# Altium schematic symbol library WCAP-ATET.SchLib: 72 symbols (part 1 of 2)
Pins are listed as number, name and electrical type; pins without a type are passive.

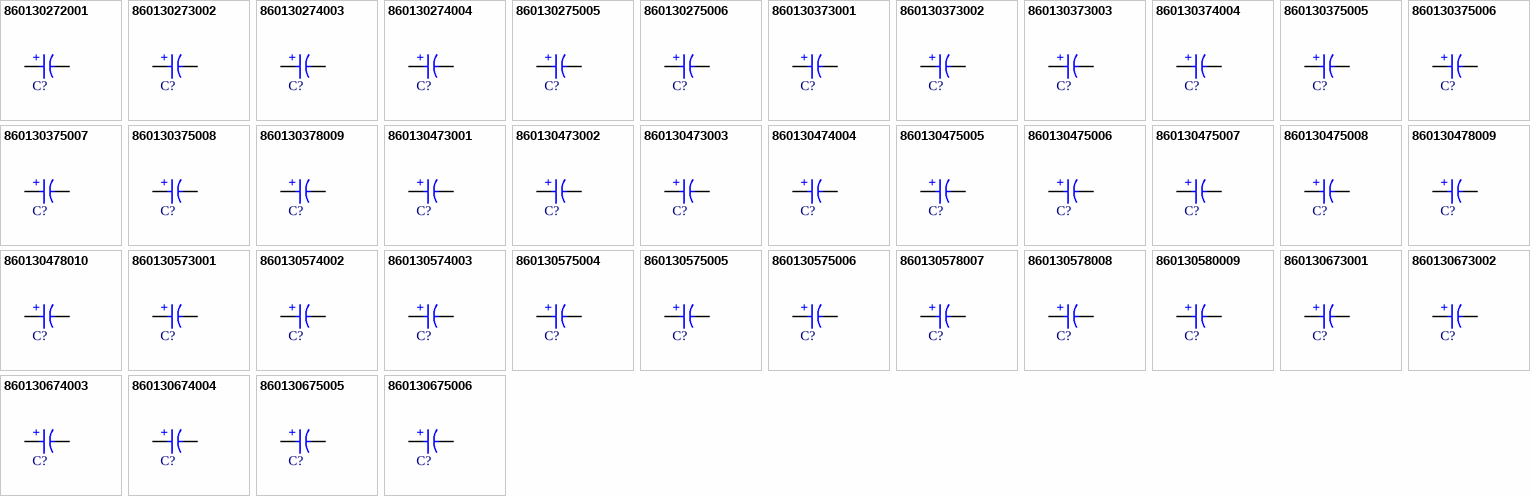
[diagram p0: symbols 860130272001 to 860130675006]

## 860130272001
designator C?, comment 47µF  (value not drawn)
WCAP-ATET Aluminum Electrolytic Capacitor, Radial, THT, D5 x H11mm, 47µF, 10V; Manufacturer Part Number: 860130272001; Manufacturer: Wurth Elektronik; Capacitance Tolerance: +/-20%; Dissipation Factor: 18%; Endurance: 1000h; Leakage Current: 4.7µA; Ripple Current: 92mA; Technical Reference: ATGC110470M010DSPA3A000; Category: Aluminum Electrolytic Capacitors; Match Code: WCAP-ATET; ComponentLink1Description: Website Link; ComponentLink1URL: https://www.we-online.com/redexpert/article/860130272001?ad; ComponentLink2Description: Datasheet Link; ComponentLink2URL: https://www.we-online.com/redexpert/spec/860130272001?ad; Mount: Through Hole; Operating Temperature Max: 125°C; Operating Temperature Min: -40°C; Packaging: Ammo Pack; Height: 11mm; Diameter: 5mm; Capacitance: 47µF; Rated Voltage (DC): 10V
footprint WCAP-ATET_D5H11
simulation model 860130272001_47uF
pins: 1 P, 2 N
text: +

## 860130273002
designator C?, comment 100µF  (value not drawn)
WCAP-ATET Aluminum Electrolytic Capacitor, Radial, THT, D6.3 x H11mm, 100µF, 10V; Manufacturer Part Number: 860130273002; Manufacturer: Wurth Elektronik; Capacitance Tolerance: +/-20%; Dissipation Factor: 18%; Endurance: 1000h; Leakage Current: 10µA; Ripple Current: 145mA; Technical Reference: ATGD110101M010DSPA4A000; Category: Aluminum Electrolytic Capacitors; Match Code: WCAP-ATET; ComponentLink1Description: Website Link; ComponentLink1URL: https://www.we-online.com/redexpert/article/860130273002?ad; ComponentLink2Description: Datasheet Link; ComponentLink2URL: https://www.we-online.com/redexpert/spec/860130273002?ad; Mount: Through Hole; Operating Temperature Max: 125°C; Operating Temperature Min: -40°C; Packaging: Ammo Pack; Height: 11mm; Diameter: 6.3mm; Capacitance: 100µF; Rated Voltage (DC): 10V
footprint WCAP-ATET_D6.3H11
simulation model 860130273002_100uF
pins: 1 P, 2 N
text: +

## 860130274003
designator C?, comment 220µF  (value not drawn)
WCAP-ATET Aluminum Electrolytic Capacitor, Radial, THT, D8 x H11.5mm, 220µF, 10V; Manufacturer Part Number: 860130274003; Manufacturer: Wurth Elektronik; Capacitance Tolerance: +/-20%; Dissipation Factor: 18%; Endurance: 1000h; Leakage Current: 22µA; Ripple Current: 330mA; Technical Reference: ATGE115221M010DSPA7A000; Category: Aluminum Electrolytic Capacitors; Match Code: WCAP-ATET; ComponentLink1Description: Website Link; ComponentLink1URL: https://www.we-online.com/redexpert/article/860130274003?ad; ComponentLink2Description: Datasheet Link; ComponentLink2URL: https://www.we-online.com/redexpert/spec/860130274003?ad; Mount: Through Hole; Operating Temperature Max: 125°C; Operating Temperature Min: -40°C; Packaging: Ammo Pack; Height: 11.5mm; Diameter: 8mm; Capacitance: 220µF; Rated Voltage (DC): 10V
footprint WCAP-ATET_D8H11.5
simulation model 860130274003_220uF
pins: 1 P, 2 N
text: +

## 860130274004
designator C?, comment 330µF  (value not drawn)
WCAP-ATET Aluminum Electrolytic Capacitor, Radial, THT, D8 x H11.5mm, 330µF, 10V; Manufacturer Part Number: 860130274004; Manufacturer: Wurth Elektronik; Capacitance Tolerance: +/-20%; Dissipation Factor: 18%; Endurance: 1000h; Leakage Current: 33µA; Ripple Current: 340mA; Technical Reference: ATGE115331M010DSPA7A000; Category: Aluminum Electrolytic Capacitors; Match Code: WCAP-ATET; ComponentLink1Description: Website Link; ComponentLink1URL: https://www.we-online.com/redexpert/article/860130274004?ad; ComponentLink2Description: Datasheet Link; ComponentLink2URL: https://www.we-online.com/redexpert/spec/860130274004?ad; Mount: Through Hole; Operating Temperature Max: 125°C; Operating Temperature Min: -40°C; Packaging: Ammo Pack; Height: 11.5mm; Diameter: 8mm; Capacitance: 330µF; Rated Voltage (DC): 10V
footprint WCAP-ATET_D8H11.5
simulation model 860130274004_330uF
pins: 1 P, 2 N
text: +

## 860130275005
designator C?, comment 470µF  (value not drawn)
WCAP-ATET Aluminum Electrolytic Capacitor, Radial, THT, D10 x H12.5mm, 470µF, 10V; Manufacturer Part Number: 860130275005; Manufacturer: Wurth Elektronik; Capacitance Tolerance: +/-20%; Dissipation Factor: 18%; Endurance: 2000h; Leakage Current: 47µA; Ripple Current: 505mA; Technical Reference: ATGF125471M010DSPA9B000; Category: Aluminum Electrolytic Capacitors; Match Code: WCAP-ATET; ComponentLink1Description: Website Link; ComponentLink1URL: https://www.we-online.com/redexpert/article/860130275005?ad; ComponentLink2Description: Datasheet Link; ComponentLink2URL: https://www.we-online.com/redexpert/spec/860130275005?ad; Mount: Through Hole; Operating Temperature Max: 125°C; Operating Temperature Min: -40°C; Packaging: Ammo Pack; Height: 12.5mm; Diameter: 10mm; Capacitance: 470µF; Rated Voltage (DC): 10V
footprint WCAP-ATET_D10H12.5
simulation model 860130275005_470uF
pins: 1 P, 2 N
text: +

## 860130275006
designator C?, comment 1000µF  (value not drawn)
WCAP-ATET Aluminum Electrolytic Capacitor, Radial, THT, D10 x H16mm, 1000µF, 10V; Manufacturer Part Number: 860130275006; Manufacturer: Wurth Elektronik; Capacitance Tolerance: +/-20%; Dissipation Factor: 18%; Endurance: 2000h; Leakage Current: 100µA; Ripple Current: 870mA; Technical Reference: ATGF160102M010DSPAAB000; Category: Aluminum Electrolytic Capacitors; Match Code: WCAP-ATET; ComponentLink1Description: Website Link; ComponentLink1URL: https://www.we-online.com/redexpert/article/860130275006?ad; ComponentLink2Description: Datasheet Link; ComponentLink2URL: https://www.we-online.com/redexpert/spec/860130275006?ad; Mount: Through Hole; Operating Temperature Max: 125°C; Operating Temperature Min: -40°C; Packaging: Ammo Pack; Height: 16mm; Diameter: 10mm; Capacitance: 1000µF; Rated Voltage (DC): 10V
footprint WCAP-ATET_D10H16
simulation model 860130275006_1mF
pins: 1 P, 2 N
text: +

## 860130373001
designator C?, comment 33µF  (value not drawn)
WCAP-ATET Aluminum Electrolytic Capacitor, Radial, THT, D6.3 x H11mm, 33µF, 16V; Manufacturer Part Number: 860130373001; Manufacturer: Wurth Elektronik; Capacitance Tolerance: +/-20%; Dissipation Factor: 15%; Endurance: 1000h; Leakage Current: 5.28µA; Ripple Current: 91mA; Technical Reference: ATGD110330M016DSPA4A000; Category: Aluminum Electrolytic Capacitors; Match Code: WCAP-ATET; ComponentLink1Description: Website Link; ComponentLink1URL: https://www.we-online.com/redexpert/article/860130373001?ad; ComponentLink2Description: Datasheet Link; ComponentLink2URL: https://www.we-online.com/redexpert/spec/860130373001?ad; Mount: Through Hole; Operating Temperature Max: 125°C; Operating Temperature Min: -40°C; Packaging: Ammo Pack; Height: 11mm; Diameter: 6.3mm; Capacitance: 33µF; Rated Voltage (DC): 16V
footprint WCAP-ATET_D6.3H11
simulation model 860130373001_33uF
pins: 1 P, 2 N
text: +

## 860130373002
designator C?, comment 47µF  (value not drawn)
WCAP-ATET Aluminum Electrolytic Capacitor, Radial, THT, D6.3 x H11mm, 47µF, 16V; Manufacturer Part Number: 860130373002; Manufacturer: Wurth Elektronik; Capacitance Tolerance: +/-20%; Dissipation Factor: 15%; Endurance: 1000h; Leakage Current: 7.52µA; Ripple Current: 110mA; Technical Reference: ATGD110470M016DSPA4A000; Category: Aluminum Electrolytic Capacitors; Match Code: WCAP-ATET; ComponentLink1Description: Website Link; ComponentLink1URL: https://www.we-online.com/redexpert/article/860130373002?ad; ComponentLink2Description: Datasheet Link; ComponentLink2URL: https://www.we-online.com/redexpert/spec/860130373002?ad; Mount: Through Hole; Operating Temperature Max: 125°C; Operating Temperature Min: -40°C; Packaging: Ammo Pack; Height: 11mm; Diameter: 6.3mm; Capacitance: 47µF; Rated Voltage (DC): 16V
footprint WCAP-ATET_D6.3H11
simulation model 860130373002_47uF
pins: 1 P, 2 N
text: +

## 860130373003
designator C?, comment 100µF  (value not drawn)
WCAP-ATET Aluminum Electrolytic Capacitor, Radial, THT, D6.3 x H11mm, 100µF, 16V; Manufacturer Part Number: 860130373003; Manufacturer: Wurth Elektronik; Capacitance Tolerance: +/-20%; Dissipation Factor: 15%; Endurance: 1000h; Leakage Current: 16µA; Ripple Current: 175mA; Technical Reference: ATGD110101M016DSPA4A000; Category: Aluminum Electrolytic Capacitors; Match Code: WCAP-ATET; ComponentLink1Description: Website Link; ComponentLink1URL: https://www.we-online.com/redexpert/article/860130373003?ad; ComponentLink2Description: Datasheet Link; ComponentLink2URL: https://www.we-online.com/redexpert/spec/860130373003?ad; Mount: Through Hole; Operating Temperature Max: 125°C; Operating Temperature Min: -40°C; Packaging: Ammo Pack; Height: 11mm; Diameter: 6.3mm; Capacitance: 100µF; Rated Voltage (DC): 16V
footprint WCAP-ATET_D6.3H11
simulation model 860130373003_100uF
pins: 1 P, 2 N
text: +

## 860130374004
designator C?, comment 220µF  (value not drawn)
WCAP-ATET Aluminum Electrolytic Capacitor, Radial, THT, D8 x H11.5mm, 220µF, 16V; Manufacturer Part Number: 860130374004; Manufacturer: Wurth Elektronik; Capacitance Tolerance: +/-20%; Dissipation Factor: 15%; Endurance: 1000h; Leakage Current: 35.2µA; Ripple Current: 340mA; Technical Reference: ATGE115221M016DSPA7A000; Category: Aluminum Electrolytic Capacitors; Match Code: WCAP-ATET; ComponentLink1Description: Website Link; ComponentLink1URL: https://www.we-online.com/redexpert/article/860130374004?ad; ComponentLink2Description: Datasheet Link; ComponentLink2URL: https://www.we-online.com/redexpert/spec/860130374004?ad; Mount: Through Hole; Operating Temperature Max: 125°C; Operating Temperature Min: -40°C; Packaging: Ammo Pack; Height: 11.5mm; Diameter: 8mm; Capacitance: 220µF; Rated Voltage (DC): 16V
footprint WCAP-ATET_D8H11.5
simulation model 860130374004_220uF
pins: 1 P, 2 N
text: +

## 860130375005
designator C?, comment 220µF  (value not drawn)
WCAP-ATET Aluminum Electrolytic Capacitor, Radial, THT, D10 x H12.5mm, 220µF, 16V; Manufacturer Part Number: 860130375005; Manufacturer: Wurth Elektronik; Capacitance Tolerance: +/-20%; Dissipation Factor: 15%; Endurance: 2000h; Leakage Current: 35.2µA; Ripple Current: 400mA; Technical Reference: ATGF125221M016DSPA9B000; Category: Aluminum Electrolytic Capacitors; Match Code: WCAP-ATET; ComponentLink1Description: Website Link; ComponentLink1URL: https://www.we-online.com/redexpert/article/860130375005?ad; ComponentLink2Description: Datasheet Link; ComponentLink2URL: https://www.we-online.com/redexpert/spec/860130375005?ad; Mount: Through Hole; Operating Temperature Max: 125°C; Operating Temperature Min: -40°C; Packaging: Ammo Pack; Height: 12.5mm; Diameter: 10mm; Capacitance: 220µF; Rated Voltage (DC): 16V
footprint WCAP-ATET_D10H12.5
simulation model 860130375005_220uF
pins: 1 P, 2 N
text: +

## 860130375006
designator C?, comment 330µF  (value not drawn)
WCAP-ATET Aluminum Electrolytic Capacitor, Radial, THT, D10 x H12.5mm, 330µF, 16V; Manufacturer Part Number: 860130375006; Manufacturer: Wurth Elektronik; Capacitance Tolerance: +/-20%; Dissipation Factor: 15%; Endurance: 2000h; Leakage Current: 52.8µA; Ripple Current: 470mA; Technical Reference: ATGF125331M016DSPA9B000; Category: Aluminum Electrolytic Capacitors; Match Code: WCAP-ATET; ComponentLink1Description: Website Link; ComponentLink1URL: https://www.we-online.com/redexpert/article/860130375006?ad; ComponentLink2Description: Datasheet Link; ComponentLink2URL: https://www.we-online.com/redexpert/spec/860130375006?ad; Mount: Through Hole; Operating Temperature Max: 125°C; Operating Temperature Min: -40°C; Packaging: Ammo Pack; Height: 12.5mm; Diameter: 10mm; Capacitance: 330µF; Rated Voltage (DC): 16V
footprint WCAP-ATET_D10H12.5
simulation model 860130375006_330uF
pins: 1 P, 2 N
text: +

## 860130375007
designator C?, comment 470µF  (value not drawn)
WCAP-ATET Aluminum Electrolytic Capacitor, Radial, THT, D10 x H16mm, 470µF, 16V; Manufacturer Part Number: 860130375007; Manufacturer: Wurth Elektronik; Capacitance Tolerance: +/-20%; Dissipation Factor: 15%; Endurance: 2000h; Leakage Current: 75.2µA; Ripple Current: 650mA; Technical Reference: ATGF160471M016DSPAAB000; Category: Aluminum Electrolytic Capacitors; Match Code: WCAP-ATET; ComponentLink1Description: Website Link; ComponentLink1URL: https://www.we-online.com/redexpert/article/860130375007?ad; ComponentLink2Description: Datasheet Link; ComponentLink2URL: https://www.we-online.com/redexpert/spec/860130375007?ad; Mount: Through Hole; Operating Temperature Max: 125°C; Operating Temperature Min: -40°C; Packaging: Ammo Pack; Height: 16mm; Diameter: 10mm; Capacitance: 470µF; Rated Voltage (DC): 16V
footprint WCAP-ATET_D10H16
simulation model 860130375007_470uF
pins: 1 P, 2 N
text: +

## 860130375008
designator C?, comment 1000µF  (value not drawn)
WCAP-ATET Aluminum Electrolytic Capacitor, Radial, THT, D10 x H25mm, 1000µF, 16V; Manufacturer Part Number: 860130375008; Manufacturer: Wurth Elektronik; Capacitance Tolerance: +/-20%; Dissipation Factor: 15%; Endurance: 2000h; Leakage Current: 160µA; Ripple Current: 950mA; Technical Reference: ATGF250102M016DSPAAB000; Category: Aluminum Electrolytic Capacitors; Match Code: WCAP-ATET; ComponentLink1Description: Website Link; ComponentLink1URL: https://www.we-online.com/redexpert/article/860130375008?ad; ComponentLink2Description: Datasheet Link; ComponentLink2URL: https://www.we-online.com/redexpert/spec/860130375008?ad; Mount: Through Hole; Operating Temperature Max: 125°C; Operating Temperature Min: -40°C; Packaging: Ammo Pack; Height: 25mm; Diameter: 10mm; Capacitance: 1000µF; Rated Voltage (DC): 16V
footprint WCAP-ATET_D10H25
simulation model 860130375008_1mF
pins: 1 P, 2 N
text: +

## 860130378009
designator C?, comment 1000µF  (value not drawn)
WCAP-ATET Aluminum Electrolytic Capacitor, Radial, THT, D13 x H20mm, 1000µF, 16V; Manufacturer Part Number: 860130378009; Manufacturer: Wurth Elektronik; Capacitance Tolerance: +/-20%; Dissipation Factor: 15%; Endurance: 2000h; Leakage Current: 160µA; Ripple Current: 1000mA; Technical Reference: ATGI200102M016DSPACB000; Category: Aluminum Electrolytic Capacitors; Match Code: WCAP-ATET; ComponentLink1Description: Website Link; ComponentLink1URL: https://www.we-online.com/redexpert/article/860130378009?ad; ComponentLink2Description: Datasheet Link; ComponentLink2URL: https://www.we-online.com/redexpert/spec/860130378009?ad; Mount: Through Hole; Operating Temperature Max: 125°C; Operating Temperature Min: -40°C; Packaging: Ammo Pack; Height: 20mm; Diameter: 13mm; Capacitance: 1000µF; Rated Voltage (DC): 16V
footprint WCAP-ATET_D13H20
simulation model 860130378009_1mF
pins: 1 P, 2 N
text: +

## 860130473001
designator C?, comment 22µF  (value not drawn)
WCAP-ATET Aluminum Electrolytic Capacitor, Radial, THT, D6.3 x H11mm, 22µF, 25V; Manufacturer Part Number: 860130473001; Manufacturer: Wurth Elektronik; Capacitance Tolerance: +/-20%; Dissipation Factor: 13%; Endurance: 1000h; Leakage Current: 5.5µA; Ripple Current: 70mA; Technical Reference: ATGD110220M025DSPA4A000; Category: Aluminum Electrolytic Capacitors; Match Code: WCAP-ATET; ComponentLink1Description: Website Link; ComponentLink1URL: https://www.we-online.com/redexpert/article/860130473001?ad; ComponentLink2Description: Datasheet Link; ComponentLink2URL: https://www.we-online.com/redexpert/spec/860130473001?ad; Mount: Through Hole; Operating Temperature Max: 125°C; Operating Temperature Min: -40°C; Packaging: Ammo Pack; Height: 11mm; Diameter: 6.3mm; Capacitance: 22µF; Rated Voltage (DC): 25V
footprint WCAP-ATET_D6.3H11
simulation model 860130473001_22uF
pins: 1 P, 2 N
text: +

## 860130473002
designator C?, comment 33µF  (value not drawn)
WCAP-ATET Aluminum Electrolytic Capacitor, Radial, THT, D6.3 x H11mm, 33µF, 25V; Manufacturer Part Number: 860130473002; Manufacturer: Wurth Elektronik; Capacitance Tolerance: +/-20%; Dissipation Factor: 13%; Endurance: 1000h; Leakage Current: 8.25µA; Ripple Current: 100mA; Technical Reference: ATGD110330M025DSPA4A000; Category: Aluminum Electrolytic Capacitors; Match Code: WCAP-ATET; ComponentLink1Description: Website Link; ComponentLink1URL: https://www.we-online.com/redexpert/article/860130473002?ad; ComponentLink2Description: Datasheet Link; ComponentLink2URL: https://www.we-online.com/redexpert/spec/860130473002?ad; Mount: Through Hole; Operating Temperature Max: 125°C; Operating Temperature Min: -40°C; Packaging: Ammo Pack; Height: 11mm; Diameter: 6.3mm; Capacitance: 33µF; Rated Voltage (DC): 25V
footprint WCAP-ATET_D6.3H11
simulation model 860130473002_33uF
pins: 1 P, 2 N
text: +

## 860130473003
designator C?, comment 47µF  (value not drawn)
WCAP-ATET Aluminum Electrolytic Capacitor, Radial, THT, D6.3 x H11mm, 47µF, 25V; Manufacturer Part Number: 860130473003; Manufacturer: Wurth Elektronik; Capacitance Tolerance: +/-20%; Dissipation Factor: 13%; Endurance: 1000h; Leakage Current: 11.75µA; Ripple Current: 110mA; Technical Reference: ATGD110470M025DSPA4A000; Category: Aluminum Electrolytic Capacitors; Match Code: WCAP-ATET; ComponentLink1Description: Website Link; ComponentLink1URL: https://www.we-online.com/redexpert/article/860130473003?ad; ComponentLink2Description: Datasheet Link; ComponentLink2URL: https://www.we-online.com/redexpert/spec/860130473003?ad; Mount: Through Hole; Operating Temperature Max: 125°C; Operating Temperature Min: -40°C; Packaging: Ammo Pack; Height: 11mm; Diameter: 6.3mm; Capacitance: 47µF; Rated Voltage (DC): 25V
footprint WCAP-ATET_D6.3H11
simulation model 860130473003_47uF
pins: 1 P, 2 N
text: +

## 860130474004
designator C?, comment 100µF  (value not drawn)
WCAP-ATET Aluminum Electrolytic Capacitor, Radial, THT, D8 x H11.5mm, 100µF, 25V; Manufacturer Part Number: 860130474004; Manufacturer: Wurth Elektronik; Capacitance Tolerance: +/-20%; Dissipation Factor: 13%; Endurance: 1000h; Leakage Current: 25µA; Ripple Current: 210mA; Technical Reference: ATGE115101M025DSPA7A000; Category: Aluminum Electrolytic Capacitors; Match Code: WCAP-ATET; ComponentLink1Description: Website Link; ComponentLink1URL: https://www.we-online.com/redexpert/article/860130474004?ad; ComponentLink2Description: Datasheet Link; ComponentLink2URL: https://www.we-online.com/redexpert/spec/860130474004?ad; Mount: Through Hole; Operating Temperature Max: 125°C; Operating Temperature Min: -40°C; Packaging: Ammo Pack; Height: 11.5mm; Diameter: 8mm; Capacitance: 100µF; Rated Voltage (DC): 25V
footprint WCAP-ATET_D8H11.5
simulation model 860130474004_100uF
pins: 1 P, 2 N
text: +

## 860130475005
designator C?, comment 100µF  (value not drawn)
WCAP-ATET Aluminum Electrolytic Capacitor, Radial, THT, D10 x H12.5mm, 100µF, 25V; Manufacturer Part Number: 860130475005; Manufacturer: Wurth Elektronik; Capacitance Tolerance: +/-20%; Dissipation Factor: 13%; Endurance: 2000h; Leakage Current: 25µA; Ripple Current: 250mA; Technical Reference: ATGF125101M025DSPA9B000; Category: Aluminum Electrolytic Capacitors; Match Code: WCAP-ATET; ComponentLink1Description: Website Link; ComponentLink1URL: https://www.we-online.com/redexpert/article/860130475005?ad; ComponentLink2Description: Datasheet Link; ComponentLink2URL: https://www.we-online.com/redexpert/spec/860130475005?ad; Mount: Through Hole; Operating Temperature Max: 125°C; Operating Temperature Min: -40°C; Packaging: Ammo Pack; Height: 12.5mm; Diameter: 10mm; Capacitance: 100µF; Rated Voltage (DC): 25V
footprint WCAP-ATET_D10H12.5
simulation model 860130475005_100uF
pins: 1 P, 2 N
text: +

## 860130475006
designator C?, comment 220µF  (value not drawn)
WCAP-ATET Aluminum Electrolytic Capacitor, Radial, THT, D10 x H12.5mm, 220µF, 25V; Manufacturer Part Number: 860130475006; Manufacturer: Wurth Elektronik; Capacitance Tolerance: +/-20%; Dissipation Factor: 13%; Endurance: 2000h; Leakage Current: 55µA; Ripple Current: 420mA; Technical Reference: ATGF125221M025DSPA9B000; Category: Aluminum Electrolytic Capacitors; Match Code: WCAP-ATET; ComponentLink1Description: Website Link; ComponentLink1URL: https://www.we-online.com/redexpert/article/860130475006?ad; ComponentLink2Description: Datasheet Link; ComponentLink2URL: https://www.we-online.com/redexpert/spec/860130475006?ad; Mount: Through Hole; Operating Temperature Max: 125°C; Operating Temperature Min: -40°C; Packaging: Ammo Pack; Height: 12.5mm; Diameter: 10mm; Capacitance: 220µF; Rated Voltage (DC): 25V
footprint WCAP-ATET_D10H12.5
simulation model 860130475006_220uF
pins: 1 P, 2 N
text: +

## 860130475007
designator C?, comment 330µF  (value not drawn)
WCAP-ATET Aluminum Electrolytic Capacitor, Radial, THT, D10 x H16mm, 330µF, 25V; Manufacturer Part Number: 860130475007; Manufacturer: Wurth Elektronik; Capacitance Tolerance: +/-20%; Dissipation Factor: 13%; Endurance: 2000h; Leakage Current: 82.5µA; Ripple Current: 570mA; Technical Reference: ATGF160331M025DSPAAB000; Category: Aluminum Electrolytic Capacitors; Match Code: WCAP-ATET; ComponentLink1Description: Website Link; ComponentLink1URL: https://www.we-online.com/redexpert/article/860130475007?ad; ComponentLink2Description: Datasheet Link; ComponentLink2URL: https://www.we-online.com/redexpert/spec/860130475007?ad; Mount: Through Hole; Operating Temperature Max: 125°C; Operating Temperature Min: -40°C; Packaging: Ammo Pack; Height: 16mm; Diameter: 10mm; Capacitance: 330µF; Rated Voltage (DC): 25V
footprint WCAP-ATET_D10H16
simulation model 860130475007_330uF
pins: 1 P, 2 N
text: +

## 860130475008
designator C?, comment 470µF  (value not drawn)
WCAP-ATET Aluminum Electrolytic Capacitor, Radial, THT, D10 x H25mm, 470µF, 25V; Manufacturer Part Number: 860130475008; Manufacturer: Wurth Elektronik; Capacitance Tolerance: +/-20%; Dissipation Factor: 13%; Endurance: 2000h; Leakage Current: 117.5µA; Ripple Current: 770mA; Technical Reference: ATGF250471M025DSPAAB000; Category: Aluminum Electrolytic Capacitors; Match Code: WCAP-ATET; ComponentLink1Description: Website Link; ComponentLink1URL: https://www.we-online.com/redexpert/article/860130475008?ad; ComponentLink2Description: Datasheet Link; ComponentLink2URL: https://www.we-online.com/redexpert/spec/860130475008?ad; Mount: Through Hole; Operating Temperature Max: 125°C; Operating Temperature Min: -40°C; Packaging: Ammo Pack; Height: 25mm; Diameter: 10mm; Capacitance: 470µF; Rated Voltage (DC): 25V
footprint WCAP-ATET_D10H25
simulation model 860130475008_470uF
pins: 1 P, 2 N
text: +

## 860130478009
designator C?, comment 470µF  (value not drawn)
WCAP-ATET Aluminum Electrolytic Capacitor, Radial, THT, D13 x H20mm, 470µF, 25V; Manufacturer Part Number: 860130478009; Manufacturer: Wurth Elektronik; Capacitance Tolerance: +/-20%; Dissipation Factor: 13%; Endurance: 2000h; Leakage Current: 117.5µA; Ripple Current: 810mA; Technical Reference: ATGI200471M025DSPACB000; Category: Aluminum Electrolytic Capacitors; Match Code: WCAP-ATET; ComponentLink1Description: Website Link; ComponentLink1URL: https://www.we-online.com/redexpert/article/860130478009?ad; ComponentLink2Description: Datasheet Link; ComponentLink2URL: https://www.we-online.com/redexpert/spec/860130478009?ad; Mount: Through Hole; Operating Temperature Max: 125°C; Operating Temperature Min: -40°C; Packaging: Ammo Pack; Height: 20mm; Diameter: 13mm; Capacitance: 470µF; Rated Voltage (DC): 25V
footprint WCAP-ATET_D13H20
simulation model 860130478009_470uF
pins: 1 P, 2 N
text: +

## 860130478010
designator C?, comment 1000µF  (value not drawn)
WCAP-ATET Aluminum Electrolytic Capacitor, Radial, THT, D13 x H25mm, 1000µF, 25V; Manufacturer Part Number: 860130478010; Manufacturer: Wurth Elektronik; Capacitance Tolerance: +/-20%; Dissipation Factor: 13%; Endurance: 2000h; Leakage Current: 250µA; Ripple Current: 970mA; Technical Reference: ATGI250102M025DSPACB000; Category: Aluminum Electrolytic Capacitors; Match Code: WCAP-ATET; ComponentLink1Description: Website Link; ComponentLink1URL: https://www.we-online.com/redexpert/article/860130478010?ad; ComponentLink2Description: Datasheet Link; ComponentLink2URL: https://www.we-online.com/redexpert/spec/860130478010?ad; Mount: Through Hole; Operating Temperature Max: 125°C; Operating Temperature Min: -40°C; Packaging: Ammo Pack; Height: 25mm; Diameter: 13mm; Capacitance: 1000µF; Rated Voltage (DC): 25V
footprint WCAP-ATET_D13H25
simulation model 860130478010_1mF
pins: 1 P, 2 N
text: +

## 860130573001
designator C?, comment 22µF  (value not drawn)
WCAP-ATET Aluminum Electrolytic Capacitor, Radial, THT, D6.3 x H11mm, 22µF, 35V; Manufacturer Part Number: 860130573001; Manufacturer: Wurth Elektronik; Capacitance Tolerance: +/-20%; Dissipation Factor: 12%; Endurance: 1000h; Leakage Current: 7.7µA; Ripple Current: 82mA; Technical Reference: ATGD110220M035DSPA4A000; Category: Aluminum Electrolytic Capacitors; Match Code: WCAP-ATET; ComponentLink1Description: Website Link; ComponentLink1URL: https://www.we-online.com/redexpert/article/860130573001?ad; ComponentLink2Description: Datasheet Link; ComponentLink2URL: https://www.we-online.com/redexpert/spec/860130573001?ad; Mount: Through Hole; Operating Temperature Max: 125°C; Operating Temperature Min: -40°C; Packaging: Ammo Pack; Height: 11mm; Diameter: 6.3mm; Capacitance: 22µF; Rated Voltage (DC): 35V
footprint WCAP-ATET_D6.3H11
simulation model 860130573001_22uF
pins: 1 P, 2 N
text: +

## 860130574002
designator C?, comment 33µF  (value not drawn)
WCAP-ATET Aluminum Electrolytic Capacitor, Radial, THT, D8 x H11.5mm, 33µF, 35V; Manufacturer Part Number: 860130574002; Manufacturer: Wurth Elektronik; Capacitance Tolerance: +/-20%; Dissipation Factor: 12%; Endurance: 1000h; Leakage Current: 11.55µA; Ripple Current: 108mA; Technical Reference: ATGE115330M035DSPA7A000; Category: Aluminum Electrolytic Capacitors; Match Code: WCAP-ATET; ComponentLink1Description: Website Link; ComponentLink1URL: https://www.we-online.com/redexpert/article/860130574002?ad; ComponentLink2Description: Datasheet Link; ComponentLink2URL: https://www.we-online.com/redexpert/spec/860130574002?ad; Mount: Through Hole; Operating Temperature Max: 125°C; Operating Temperature Min: -40°C; Packaging: Ammo Pack; Height: 11.5mm; Diameter: 8mm; Capacitance: 33µF; Rated Voltage (DC): 35V
footprint WCAP-ATET_D8H11.5
simulation model 860130574002_33uF
pins: 1 P, 2 N
text: +

## 860130574003
designator C?, comment 47µF  (value not drawn)
WCAP-ATET Aluminum Electrolytic Capacitor, Radial, THT, D8 x H11.5mm, 47µF, 35V; Manufacturer Part Number: 860130574003; Manufacturer: Wurth Elektronik; Capacitance Tolerance: +/-20%; Dissipation Factor: 12%; Endurance: 1000h; Leakage Current: 16.45µA; Ripple Current: 130mA; Technical Reference: ATGE115470M035DSPA7A000; Category: Aluminum Electrolytic Capacitors; Match Code: WCAP-ATET; ComponentLink1Description: Website Link; ComponentLink1URL: https://www.we-online.com/redexpert/article/860130574003?ad; ComponentLink2Description: Datasheet Link; ComponentLink2URL: https://www.we-online.com/redexpert/spec/860130574003?ad; Mount: Through Hole; Operating Temperature Max: 125°C; Operating Temperature Min: -40°C; Packaging: Ammo Pack; Height: 11.5mm; Diameter: 8mm; Capacitance: 47µF; Rated Voltage (DC): 35V
footprint WCAP-ATET_D8H11.5
simulation model 860130574003_47uF
pins: 1 P, 2 N
text: +

## 860130575004
designator C?, comment 100µF  (value not drawn)
WCAP-ATET Aluminum Electrolytic Capacitor, Radial, THT, D10 x H12.5mm, 100µF, 35V; Manufacturer Part Number: 860130575004; Manufacturer: Wurth Elektronik; Capacitance Tolerance: +/-20%; Dissipation Factor: 12%; Endurance: 2000h; Leakage Current: 35µA; Ripple Current: 230mA; Technical Reference: ATGF125101M035DSPA9B000; Category: Aluminum Electrolytic Capacitors; Match Code: WCAP-ATET; ComponentLink1Description: Website Link; ComponentLink1URL: https://www.we-online.com/redexpert/article/860130575004?ad; ComponentLink2Description: Datasheet Link; ComponentLink2URL: https://www.we-online.com/redexpert/spec/860130575004?ad; Mount: Through Hole; Operating Temperature Max: 125°C; Operating Temperature Min: -40°C; Packaging: Ammo Pack; Height: 12.5mm; Diameter: 10mm; Capacitance: 100µF; Rated Voltage (DC): 35V
footprint WCAP-ATET_D10H12.5
simulation model 860130575004_100uF
pins: 1 P, 2 N
text: +

## 860130575005
designator C?, comment 220µF  (value not drawn)
WCAP-ATET Aluminum Electrolytic Capacitor, Radial, THT, D10 x H16mm, 220µF, 35V; Manufacturer Part Number: 860130575005; Manufacturer: Wurth Elektronik; Capacitance Tolerance: +/-20%; Dissipation Factor: 12%; Endurance: 2000h; Leakage Current: 77µA; Ripple Current: 480mA; Technical Reference: ATGF160221M035DSPAAB000; Category: Aluminum Electrolytic Capacitors; Match Code: WCAP-ATET; ComponentLink1Description: Website Link; ComponentLink1URL: https://www.we-online.com/redexpert/article/860130575005?ad; ComponentLink2Description: Datasheet Link; ComponentLink2URL: https://www.we-online.com/redexpert/spec/860130575005?ad; Mount: Through Hole; Operating Temperature Max: 125°C; Operating Temperature Min: -40°C; Packaging: Ammo Pack; Height: 16mm; Diameter: 10mm; Capacitance: 220µF; Rated Voltage (DC): 35V
footprint WCAP-ATET_D10H16
simulation model 860130575005_220uF
pins: 1 P, 2 N
text: +

## 860130575006
designator C?, comment 330µF  (value not drawn)
WCAP-ATET Aluminum Electrolytic Capacitor, Radial, THT, D10 x H25mm, 330µF, 35V; Manufacturer Part Number: 860130575006; Manufacturer: Wurth Elektronik; Capacitance Tolerance: +/-20%; Dissipation Factor: 12%; Endurance: 2000h; Leakage Current: 115.5µA; Ripple Current: 680mA; Technical Reference: ATGF250331M035DSPAAB000; Category: Aluminum Electrolytic Capacitors; Match Code: WCAP-ATET; ComponentLink1Description: Website Link; ComponentLink1URL: https://www.we-online.com/redexpert/article/860130575006?ad; ComponentLink2Description: Datasheet Link; ComponentLink2URL: https://www.we-online.com/redexpert/spec/860130575006?ad; Mount: Through Hole; Operating Temperature Max: 125°C; Operating Temperature Min: -40°C; Packaging: Ammo Pack; Height: 25mm; Diameter: 10mm; Capacitance: 330µF; Rated Voltage (DC): 35V
footprint WCAP-ATET_D10H25
simulation model 860130575006_330uF
pins: 1 P, 2 N
text: +

## 860130578007
designator C?, comment 330µF  (value not drawn)
WCAP-ATET Aluminum Electrolytic Capacitor, Radial, THT, D13 x H20mm, 330µF, 35V; Manufacturer Part Number: 860130578007; Manufacturer: Wurth Elektronik; Capacitance Tolerance: +/-20%; Dissipation Factor: 12%; Endurance: 2000h; Leakage Current: 115.5µA; Ripple Current: 718mA; Technical Reference: ATGI200331M035DSPACB000; Category: Aluminum Electrolytic Capacitors; Match Code: WCAP-ATET; ComponentLink1Description: Website Link; ComponentLink1URL: https://www.we-online.com/redexpert/article/860130578007?ad; ComponentLink2Description: Datasheet Link; ComponentLink2URL: https://www.we-online.com/redexpert/spec/860130578007?ad; Mount: Through Hole; Operating Temperature Max: 125°C; Operating Temperature Min: -40°C; Packaging: Ammo Pack; Height: 20mm; Diameter: 13mm; Capacitance: 330µF; Rated Voltage (DC): 35V
footprint WCAP-ATET_D13H20
simulation model 860130578007_330uF
pins: 1 P, 2 N
text: +

## 860130578008
designator C?, comment 470µF  (value not drawn)
WCAP-ATET Aluminum Electrolytic Capacitor, Radial, THT, D13 x H20mm, 470µF, 35V; Manufacturer Part Number: 860130578008; Manufacturer: Wurth Elektronik; Capacitance Tolerance: +/-20%; Dissipation Factor: 12%; Endurance: 2000h; Leakage Current: 164.5µA; Ripple Current: 810mA; Technical Reference: ATGI200471M035DSPACB000; Category: Aluminum Electrolytic Capacitors; Match Code: WCAP-ATET; ComponentLink1Description: Website Link; ComponentLink1URL: https://www.we-online.com/redexpert/article/860130578008?ad; ComponentLink2Description: Datasheet Link; ComponentLink2URL: https://www.we-online.com/redexpert/spec/860130578008?ad; Mount: Through Hole; Operating Temperature Max: 125°C; Operating Temperature Min: -40°C; Packaging: Ammo Pack; Height: 20mm; Diameter: 13mm; Capacitance: 470µF; Rated Voltage (DC): 35V
footprint WCAP-ATET_D13H20
simulation model 860130578008_470uF
pins: 1 P, 2 N
text: +

## 860130580009
designator C?, comment 1000µF  (value not drawn)
WCAP-ATET Aluminum Electrolytic Capacitor, Radial, THT, D16 x H25mm, 1000µF, 35V; Manufacturer Part Number: 860130580009; Manufacturer: Wurth Elektronik; Capacitance Tolerance: +/-20%; Dissipation Factor: 12%; Endurance: 2000h; Leakage Current: 350µA; Ripple Current: 1080mA; Technical Reference: ATGK250102M035DSPAEB000; Category: Aluminum Electrolytic Capacitors; Match Code: WCAP-ATET; ComponentLink1Description: Website Link; ComponentLink1URL: https://www.we-online.com/redexpert/article/860130580009?ad; ComponentLink2Description: Datasheet Link; ComponentLink2URL: https://www.we-online.com/redexpert/spec/860130580009?ad; Mount: Through Hole; Operating Temperature Max: 125°C; Operating Temperature Min: -40°C; Packaging: Ammo Pack; Height: 25mm; Diameter: 16mm; Capacitance: 1000µF; Rated Voltage (DC): 35V
footprint WCAP-ATET_D16H25
simulation model 860130580009_1mF
pins: 1 P, 2 N
text: +

## 860130673001
designator C?, comment 10µF  (value not drawn)
WCAP-ATET Aluminum Electrolytic Capacitor, Radial, THT, D6.3 x H11mm, 10µF, 50V; Manufacturer Part Number: 860130673001; Manufacturer: Wurth Elektronik; Capacitance Tolerance: +/-20%; Dissipation Factor: 10%; Endurance: 1000h; Leakage Current: 5µA; Ripple Current: 48mA; Technical Reference: ATGD110100M050DSPA4A000; Category: Aluminum Electrolytic Capacitors; Match Code: WCAP-ATET; ComponentLink1Description: Website Link; ComponentLink1URL: https://www.we-online.com/redexpert/article/860130673001?ad; ComponentLink2Description: Datasheet Link; ComponentLink2URL: https://www.we-online.com/redexpert/spec/860130673001?ad; Mount: Through Hole; Operating Temperature Max: 125°C; Operating Temperature Min: -40°C; Packaging: Ammo Pack; Height: 11mm; Diameter: 6.3mm; Capacitance: 10µF; Rated Voltage (DC): 50V
footprint WCAP-ATET_D6.3H11
simulation model 860130673001_10uF
pins: 1 P, 2 N
text: +

## 860130673002
designator C?, comment 22µF  (value not drawn)
WCAP-ATET Aluminum Electrolytic Capacitor, Radial, THT, D6.3 x H11mm, 22µF, 50V; Manufacturer Part Number: 860130673002; Manufacturer: Wurth Elektronik; Capacitance Tolerance: +/-20%; Dissipation Factor: 10%; Endurance: 1000h; Leakage Current: 11µA; Ripple Current: 75mA; Technical Reference: ATGD110220M050DSPA4A000; Category: Aluminum Electrolytic Capacitors; Match Code: WCAP-ATET; ComponentLink1Description: Website Link; ComponentLink1URL: https://www.we-online.com/redexpert/article/860130673002?ad; ComponentLink2Description: Datasheet Link; ComponentLink2URL: https://www.we-online.com/redexpert/spec/860130673002?ad; Mount: Through Hole; Operating Temperature Max: 125°C; Operating Temperature Min: -40°C; Packaging: Ammo Pack; Height: 11mm; Diameter: 6.3mm; Capacitance: 22µF; Rated Voltage (DC): 50V
footprint WCAP-ATET_D6.3H11
simulation model 860130673002_22uF
pins: 1 P, 2 N
text: +

## 860130674003
designator C?, comment 33µF  (value not drawn)
WCAP-ATET Aluminum Electrolytic Capacitor, Radial, THT, D8 x H11.5mm, 33µF, 50V; Manufacturer Part Number: 860130674003; Manufacturer: Wurth Elektronik; Capacitance Tolerance: +/-20%; Dissipation Factor: 10%; Endurance: 1000h; Leakage Current: 16.5µA; Ripple Current: 122mA; Technical Reference: ATGE115330M050DSPA7A000; Category: Aluminum Electrolytic Capacitors; Match Code: WCAP-ATET; ComponentLink1Description: Website Link; ComponentLink1URL: https://www.we-online.com/redexpert/article/860130674003?ad; ComponentLink2Description: Datasheet Link; ComponentLink2URL: https://www.we-online.com/redexpert/spec/860130674003?ad; Mount: Through Hole; Operating Temperature Max: 125°C; Operating Temperature Min: -40°C; Packaging: Ammo Pack; Height: 11.5mm; Diameter: 8mm; Capacitance: 33µF; Rated Voltage (DC): 50V
footprint WCAP-ATET_D8H11.5
simulation model 860130674003_33uF
pins: 1 P, 2 N
text: +

## 860130674004
designator C?, comment 47µF  (value not drawn)
WCAP-ATET Aluminum Electrolytic Capacitor, Radial, THT, D8 x H11.5mm, 47µF, 50V; Manufacturer Part Number: 860130674004; Manufacturer: Wurth Elektronik; Capacitance Tolerance: +/-20%; Dissipation Factor: 10%; Endurance: 1000h; Leakage Current: 23.5µA; Ripple Current: 140mA; Technical Reference: ATGE115470M050DSPA7A000; Category: Aluminum Electrolytic Capacitors; Match Code: WCAP-ATET; ComponentLink1Description: Website Link; ComponentLink1URL: https://www.we-online.com/redexpert/article/860130674004?ad; ComponentLink2Description: Datasheet Link; ComponentLink2URL: https://www.we-online.com/redexpert/spec/860130674004?ad; Mount: Through Hole; Operating Temperature Max: 125°C; Operating Temperature Min: -40°C; Packaging: Ammo Pack; Height: 11.5mm; Diameter: 8mm; Capacitance: 47µF; Rated Voltage (DC): 50V
footprint WCAP-ATET_D8H11.5
simulation model 860130674004_47uF
pins: 1 P, 2 N
text: +

## 860130675005
designator C?, comment 47µF  (value not drawn)
WCAP-ATET Aluminum Electrolytic Capacitor, Radial, THT, D10 x H12.5mm, 47µF, 50V; Manufacturer Part Number: 860130675005; Manufacturer: Wurth Elektronik; Capacitance Tolerance: +/-20%; Dissipation Factor: 10%; Endurance: 2000h; Leakage Current: 23.5µA; Ripple Current: 164mA; Technical Reference: ATGF125470M050DSPA9B000; Category: Aluminum Electrolytic Capacitors; Match Code: WCAP-ATET; ComponentLink1Description: Website Link; ComponentLink1URL: https://www.we-online.com/redexpert/article/860130675005?ad; ComponentLink2Description: Datasheet Link; ComponentLink2URL: https://www.we-online.com/redexpert/spec/860130675005?ad; Mount: Through Hole; Operating Temperature Max: 125°C; Operating Temperature Min: -40°C; Packaging: Ammo Pack; Height: 12.5mm; Diameter: 10mm; Capacitance: 47µF; Rated Voltage (DC): 50V
footprint WCAP-ATET_D10H12.5
simulation model 860130675005_47uF
pins: 1 P, 2 N
text: +

## 860130675006
designator C?, comment 100µF  (value not drawn)
WCAP-ATET Aluminum Electrolytic Capacitor, Radial, THT, D10 x H16mm, 100µF, 50V; Manufacturer Part Number: 860130675006; Manufacturer: Wurth Elektronik; Capacitance Tolerance: +/-20%; Dissipation Factor: 10%; Endurance: 2000h; Leakage Current: 50µA; Ripple Current: 250mA; Technical Reference: ATGF160101M050DSPAAB000; Category: Aluminum Electrolytic Capacitors; Match Code: WCAP-ATET; ComponentLink1Description: Website Link; ComponentLink1URL: https://www.we-online.com/redexpert/article/860130675006?ad; ComponentLink2Description: Datasheet Link; ComponentLink2URL: https://www.we-online.com/redexpert/spec/860130675006?ad; Mount: Through Hole; Operating Temperature Max: 125°C; Operating Temperature Min: -40°C; Packaging: Ammo Pack; Height: 16mm; Diameter: 10mm; Capacitance: 100µF; Rated Voltage (DC): 50V
footprint WCAP-ATET_D10H16
simulation model 860130675006_100uF
pins: 1 P, 2 N
text: +

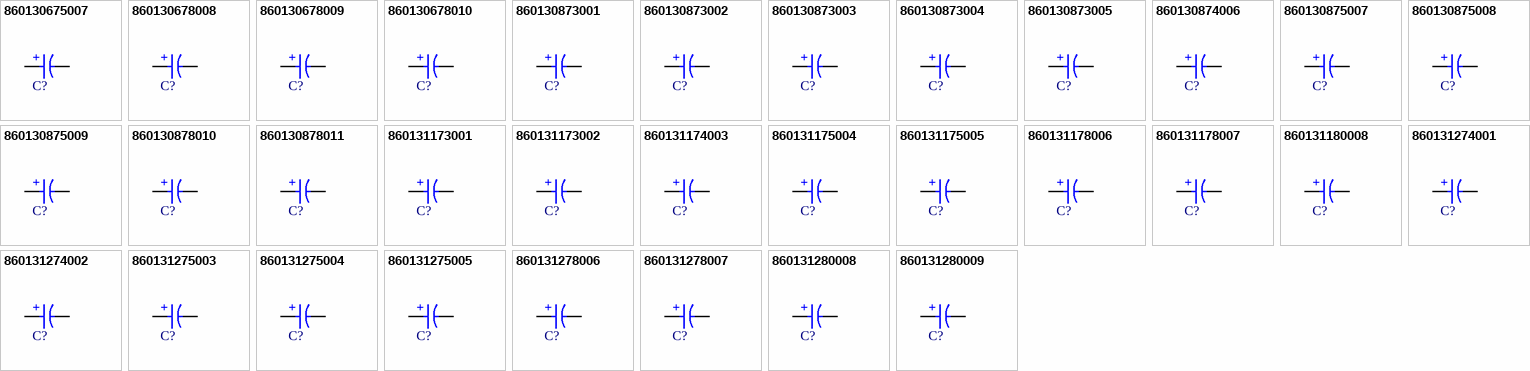
[diagram p1: symbols 860130675007 to 860131280009]

## 860130675007
designator C?, comment 220µF  (value not drawn)
WCAP-ATET Aluminum Electrolytic Capacitor, Radial, THT, D10 x H25mm, 220µF, 50V; Manufacturer Part Number: 860130675007; Manufacturer: Wurth Elektronik; Capacitance Tolerance: +/-20%; Dissipation Factor: 10%; Endurance: 2000h; Leakage Current: 110µA; Ripple Current: 560mA; Technical Reference: ATGF250221M050DSPAAB000; Category: Aluminum Electrolytic Capacitors; Match Code: WCAP-ATET; ComponentLink1Description: Website Link; ComponentLink1URL: https://www.we-online.com/redexpert/article/860130675007?ad; ComponentLink2Description: Datasheet Link; ComponentLink2URL: https://www.we-online.com/redexpert/spec/860130675007?ad; Mount: Through Hole; Operating Temperature Max: 125°C; Operating Temperature Min: -40°C; Packaging: Ammo Pack; Height: 25mm; Diameter: 10mm; Capacitance: 220µF; Rated Voltage (DC): 50V
footprint WCAP-ATET_D10H25
simulation model 860130675007_220uF
pins: 1 P, 2 N
text: +

## 860130678008
designator C?, comment 220µF  (value not drawn)
WCAP-ATET Aluminum Electrolytic Capacitor, Radial, THT, D13 x H20mm, 220µF, 50V; Manufacturer Part Number: 860130678008; Manufacturer: Wurth Elektronik; Capacitance Tolerance: +/-20%; Dissipation Factor: 10%; Endurance: 2000h; Leakage Current: 110µA; Ripple Current: 587mA; Technical Reference: ATGI200221M050DSPACB000; Category: Aluminum Electrolytic Capacitors; Match Code: WCAP-ATET; ComponentLink1Description: Website Link; ComponentLink1URL: https://www.we-online.com/redexpert/article/860130678008?ad; ComponentLink2Description: Datasheet Link; ComponentLink2URL: https://www.we-online.com/redexpert/spec/860130678008?ad; Mount: Through Hole; Operating Temperature Max: 125°C; Operating Temperature Min: -40°C; Packaging: Ammo Pack; Height: 20mm; Diameter: 13mm; Capacitance: 220µF; Rated Voltage (DC): 50V
footprint WCAP-ATET_D13H20
simulation model 860130678008_220uF
pins: 1 P, 2 N
text: +

## 860130678009
designator C?, comment 330µF  (value not drawn)
WCAP-ATET Aluminum Electrolytic Capacitor, Radial, THT, D13 x H20mm, 330µF, 50V; Manufacturer Part Number: 860130678009; Manufacturer: Wurth Elektronik; Capacitance Tolerance: +/-20%; Dissipation Factor: 10%; Endurance: 2000h; Leakage Current: 165µA; Ripple Current: 810mA; Technical Reference: ATGI200331M050DSPACB000; Category: Aluminum Electrolytic Capacitors; Match Code: WCAP-ATET; ComponentLink1Description: Website Link; ComponentLink1URL: https://www.we-online.com/redexpert/article/860130678009?ad; ComponentLink2Description: Datasheet Link; ComponentLink2URL: https://www.we-online.com/redexpert/spec/860130678009?ad; Mount: Through Hole; Operating Temperature Max: 125°C; Operating Temperature Min: -40°C; Packaging: Ammo Pack; Height: 20mm; Diameter: 13mm; Capacitance: 330µF; Rated Voltage (DC): 50V
footprint WCAP-ATET_D13H20
simulation model 860130678009_330uF
pins: 1 P, 2 N
text: +

## 860130678010
designator C?, comment 470µF  (value not drawn)
WCAP-ATET Aluminum Electrolytic Capacitor, Radial, THT, D13 x H25mm, 470µF, 50V; Manufacturer Part Number: 860130678010; Manufacturer: Wurth Elektronik; Capacitance Tolerance: +/-20%; Dissipation Factor: 10%; Endurance: 2000h; Leakage Current: 235µA; Ripple Current: 900mA; Technical Reference: ATGI250471M050DSPACB000; Category: Aluminum Electrolytic Capacitors; Match Code: WCAP-ATET; ComponentLink1Description: Website Link; ComponentLink1URL: https://www.we-online.com/redexpert/article/860130678010?ad; ComponentLink2Description: Datasheet Link; ComponentLink2URL: https://www.we-online.com/redexpert/spec/860130678010?ad; Mount: Through Hole; Operating Temperature Max: 125°C; Operating Temperature Min: -40°C; Packaging: Ammo Pack; Height: 25mm; Diameter: 13mm; Capacitance: 470µF; Rated Voltage (DC): 50V
footprint WCAP-ATET_D13H25
simulation model 860130678010_470uF
pins: 1 P, 2 N
text: +

## 860130873001
designator C?, comment 0.47µF  (value not drawn)
WCAP-ATET Aluminum Electrolytic Capacitor, Radial, THT, D6.3 x H11mm, 0.47µF, 100V; Manufacturer Part Number: 860130873001; Manufacturer: Wurth Elektronik; Capacitance Tolerance: +/-20%; Dissipation Factor: 7%; Endurance: 1000h; Leakage Current: 3µA; Ripple Current: 14mA; Technical Reference: ATGD110R47M100DSPA4A000; Category: Aluminum Electrolytic Capacitors; Match Code: WCAP-ATET; ComponentLink1Description: Website Link; ComponentLink1URL: https://www.we-online.com/redexpert/article/860130873001?ad; ComponentLink2Description: Datasheet Link; ComponentLink2URL: https://www.we-online.com/redexpert/spec/860130873001?ad; Mount: Through Hole; Operating Temperature Max: 125°C; Operating Temperature Min: -40°C; Packaging: Ammo Pack; Height: 11mm; Diameter: 6.3mm; Capacitance: 0.47µF; Rated Voltage (DC): 100V
footprint WCAP-ATET_D6.3H11
simulation model 860130873001_470nF
pins: 1 P, 2 N
text: +

## 860130873002
designator C?, comment 1µF  (value not drawn)
WCAP-ATET Aluminum Electrolytic Capacitor, Radial, THT, D6.3 x H11mm, 1µF, 100V; Manufacturer Part Number: 860130873002; Manufacturer: Wurth Elektronik; Capacitance Tolerance: +/-20%; Dissipation Factor: 7%; Endurance: 1000h; Leakage Current: 3µA; Ripple Current: 24mA; Technical Reference: ATGD110010M100DSPA4A000; Category: Aluminum Electrolytic Capacitors; Match Code: WCAP-ATET; ComponentLink1Description: Website Link; ComponentLink1URL: https://www.we-online.com/redexpert/article/860130873002?ad; ComponentLink2Description: Datasheet Link; ComponentLink2URL: https://www.we-online.com/redexpert/spec/860130873002?ad; Mount: Through Hole; Operating Temperature Max: 125°C; Operating Temperature Min: -40°C; Packaging: Ammo Pack; Height: 11mm; Diameter: 6.3mm; Capacitance: 1µF; Rated Voltage (DC): 100V
footprint WCAP-ATET_D6.3H11
simulation model 860130873002_1uF
pins: 1 P, 2 N
text: +

## 860130873003
designator C?, comment 2.2µF  (value not drawn)
WCAP-ATET Aluminum Electrolytic Capacitor, Radial, THT, D6.3 x H11mm, 2.2µF, 100V; Manufacturer Part Number: 860130873003; Manufacturer: Wurth Elektronik; Capacitance Tolerance: +/-20%; Dissipation Factor: 7%; Endurance: 1000h; Leakage Current: 3µA; Ripple Current: 31mA; Technical Reference: ATGD1102R2M100DSPA4A000; Category: Aluminum Electrolytic Capacitors; Match Code: WCAP-ATET; ComponentLink1Description: Website Link; ComponentLink1URL: https://www.we-online.com/redexpert/article/860130873003?ad; ComponentLink2Description: Datasheet Link; ComponentLink2URL: https://www.we-online.com/redexpert/spec/860130873003?ad; Mount: Through Hole; Operating Temperature Max: 125°C; Operating Temperature Min: -40°C; Packaging: Ammo Pack; Height: 11mm; Diameter: 6.3mm; Capacitance: 2.2µF; Rated Voltage (DC): 100V
footprint WCAP-ATET_D6.3H11
simulation model 860130873003_2.2uF
pins: 1 P, 2 N
text: +

## 860130873004
designator C?, comment 3.3µF  (value not drawn)
WCAP-ATET Aluminum Electrolytic Capacitor, Radial, THT, D6.3 x H11mm, 3.3µF, 100V; Manufacturer Part Number: 860130873004; Manufacturer: Wurth Elektronik; Capacitance Tolerance: +/-20%; Dissipation Factor: 7%; Endurance: 1000h; Leakage Current: 3.3µA; Ripple Current: 36mA; Technical Reference: ATGD1103R3M100DSPA4A000; Category: Aluminum Electrolytic Capacitors; Match Code: WCAP-ATET; ComponentLink1Description: Website Link; ComponentLink1URL: https://www.we-online.com/redexpert/article/860130873004?ad; ComponentLink2Description: Datasheet Link; ComponentLink2URL: https://www.we-online.com/redexpert/spec/860130873004?ad; Mount: Through Hole; Operating Temperature Max: 125°C; Operating Temperature Min: -40°C; Packaging: Ammo Pack; Height: 11mm; Diameter: 6.3mm; Capacitance: 3.3µF; Rated Voltage (DC): 100V
footprint WCAP-ATET_D6.3H11
simulation model 860130873004_3.3uF
pins: 1 P, 2 N
text: +

## 860130873005
designator C?, comment 4.7µF  (value not drawn)
WCAP-ATET Aluminum Electrolytic Capacitor, Radial, THT, D6.3 x H11mm, 4.7µF, 100V; Manufacturer Part Number: 860130873005; Manufacturer: Wurth Elektronik; Capacitance Tolerance: +/-20%; Dissipation Factor: 7%; Endurance: 1000h; Leakage Current: 4.7µA; Ripple Current: 38mA; Technical Reference: ATGD1104R7M100DSPA4A000; Category: Aluminum Electrolytic Capacitors; Match Code: WCAP-ATET; ComponentLink1Description: Website Link; ComponentLink1URL: https://www.we-online.com/redexpert/article/860130873005?ad; ComponentLink2Description: Datasheet Link; ComponentLink2URL: https://www.we-online.com/redexpert/spec/860130873005?ad; Mount: Through Hole; Operating Temperature Max: 125°C; Operating Temperature Min: -40°C; Packaging: Ammo Pack; Height: 11mm; Diameter: 6.3mm; Capacitance: 4.7µF; Rated Voltage (DC): 100V
footprint WCAP-ATET_D6.3H11
simulation model 860130873005_4.7uF
pins: 1 P, 2 N
text: +

## 860130874006
designator C?, comment 10µF  (value not drawn)
WCAP-ATET Aluminum Electrolytic Capacitor, Radial, THT, D8 x H11.5mm, 10µF, 100V; Manufacturer Part Number: 860130874006; Manufacturer: Wurth Elektronik; Capacitance Tolerance: +/-20%; Dissipation Factor: 7%; Endurance: 1000h; Leakage Current: 10µA; Ripple Current: 60mA; Technical Reference: ATGE115100M100DSPA7A000; Category: Aluminum Electrolytic Capacitors; Match Code: WCAP-ATET; ComponentLink1Description: Website Link; ComponentLink1URL: https://www.we-online.com/redexpert/article/860130874006?ad; ComponentLink2Description: Datasheet Link; ComponentLink2URL: https://www.we-online.com/redexpert/spec/860130874006?ad; Mount: Through Hole; Operating Temperature Max: 125°C; Operating Temperature Min: -40°C; Packaging: Ammo Pack; Height: 11.5mm; Diameter: 8mm; Capacitance: 10µF; Rated Voltage (DC): 100V
footprint WCAP-ATET_D8H11.5
simulation model 860130874006_10uF
pins: 1 P, 2 N
text: +

## 860130875007
designator C?, comment 22µF  (value not drawn)
WCAP-ATET Aluminum Electrolytic Capacitor, Radial, THT, D10 x H12.5mm, 22µF, 100V; Manufacturer Part Number: 860130875007; Manufacturer: Wurth Elektronik; Capacitance Tolerance: +/-20%; Dissipation Factor: 7%; Endurance: 2000h; Leakage Current: 22µA; Ripple Current: 90mA; Technical Reference: ATGF125220M100DSPA9B000; Category: Aluminum Electrolytic Capacitors; Match Code: WCAP-ATET; ComponentLink1Description: Website Link; ComponentLink1URL: https://www.we-online.com/redexpert/article/860130875007?ad; ComponentLink2Description: Datasheet Link; ComponentLink2URL: https://www.we-online.com/redexpert/spec/860130875007?ad; Mount: Through Hole; Operating Temperature Max: 125°C; Operating Temperature Min: -40°C; Packaging: Ammo Pack; Height: 12.5mm; Diameter: 10mm; Capacitance: 22µF; Rated Voltage (DC): 100V
footprint WCAP-ATET_D10H12.5
simulation model 860130875007_22uF
pins: 1 P, 2 N
text: +